# EAGLE library part MAINCONNECTOR_16 (library Mechanical)
SMD Digikey Part Number: H10966-ND Manufacturer Part Number: A3-16DA-2SV(71)
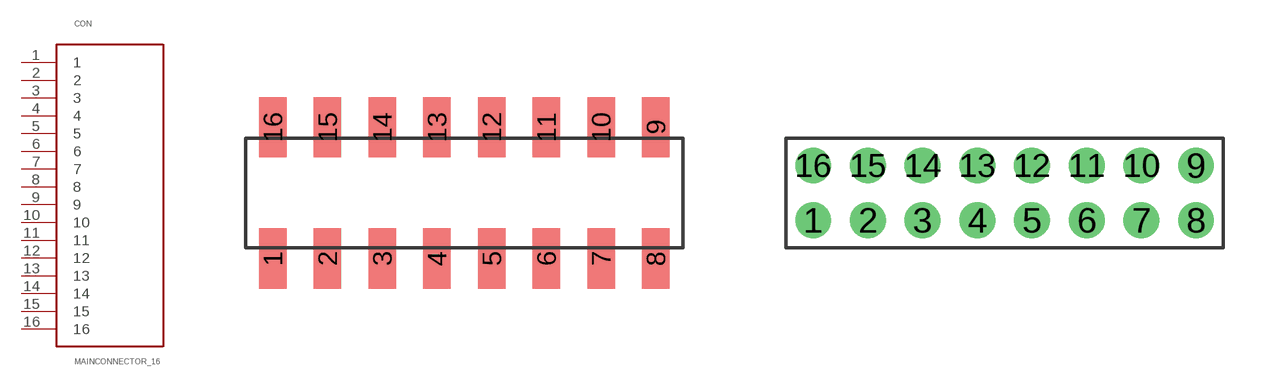
[diagram p5: symbol with the pads of FEMALE_HEADER_2MM_2X8_SMD; footprints FEMALE_HEADER_2MM_2X8_SMD, FEMALE_HEADER_2X8_2MM]

Designator prefix CON

## MAINCONNECTOR_16SMD  [FEMALE_HEADER_2MM_2X8_SMD]
1  1
2  2
3  3
4  4
5  5
6  6
7  7
8  8
9  9
10  10
11  11
12  12
13  13
14  14
15  15
16  16

## MAINCONNECTOR_16PTH  [FEMALE_HEADER_2X8_2MM]
Pads as for FEMALE_HEADER_2MM_2X8_SMD

## Footprint FEMALE_HEADER_2MM_2X8_SMD (pad centres in mm)
smd 1 x 2.2: 1 -7,-2.4; 2 -5,-2.4; 3 -3,-2.4; 4 -1,-2.4; 5 1,-2.4; 6 3,-2.4; 7 5,-2.4; 8 7,-2.4; 9 7,2.4; 10 5,2.4; 11 3,2.4; 12 1,2.4; 13 -1,2.4; 14 -3,2.4; 15 -5,2.4; 16 -7,2.4

## Footprint FEMALE_HEADER_2X8_2MM (pad centres in mm)
drill 0.8: 1 -5.11,-0.81; 2 -3.11,-0.81; 3 -1.11,-0.81; 4 0.89,-0.81; 5 2.89,-0.81; 6 4.89,-0.81; 7 6.89,-0.81; 8 8.89,-0.81; 9 8.89,1.19; 10 6.89,1.19; 11 4.89,1.19; 12 2.89,1.19; 13 0.89,1.19; 14 -1.11,1.19; 15 -3.11,1.19; 16 -5.11,1.19